# Altium schematic symbol library ICs-Interface.SchLib: 3 symbols
Pins are listed as number, name and electrical type; pins without a type are passive.

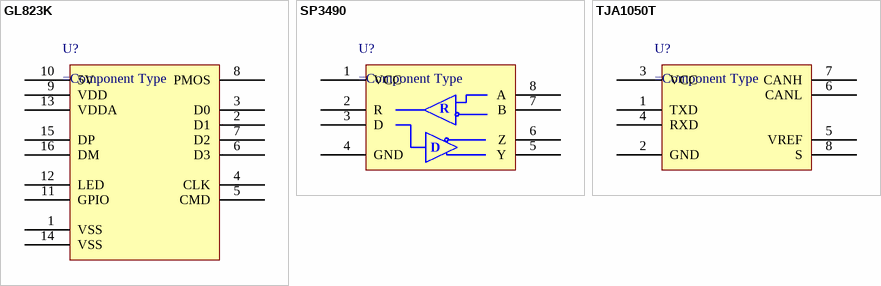
[diagram p0: symbols GL823K to TJA1050T]

## GL823K
designator U?
pins: 1 VSS, 2 D1, 3 D0, 4 CLK, 5 CMD, 6 D3, 7 D2, 8 PMOS, 9 VDD, 10 5V, 11 GPIO, 12 LED, 13 VDDA, 14 VSS, 15 DP, 16 DM

## SP3490
designator U?
pins: 1 VCC, 2 R, 3 D, 4 GND, 5 Y, 6 Z, 7 B, 8 A

## TJA1050T
designator U?
pins: 1 TXD, 2 GND, 3 VCC, 4 RXD, 5 VREF, 6 CANL, 7 CANH, 8 S